# EAGLE library part TCA9406 (library KylePile)
TI TCA9406 I2C level shifter KRP untested 5.28.16
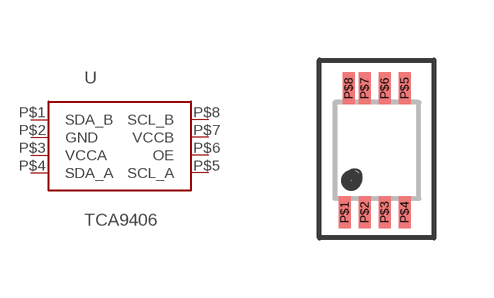
[diagram p26: symbol with the pads of 8_VFSOP; footprint 8_VFSOP]

Designator prefix U

## TCA9406  [8_VFSOP]
P$1  SDA_B
P$2  GND  in
P$3  VCCA  in
P$4  SDA_A  in
P$5  SCL_A  in
P$6  OE  in
P$7  VCCB  in
P$8  SCL_B  in

## Footprint 8_VFSOP (pad centres in mm)
8-VFSOP KRP untested 5.28.16
smd 0.3 x 0.8: P$1 0,0; P$2 0.5,0; P$3 1,0; P$4 1.5,0; P$5 1.5,3.1; P$6 1,3.1; P$7 0.5,3.1; P$8 0.1,3.1